# EAGLE library part AP0202AT2L00XPGA0 (library AP0202AT2L00XPGA0)
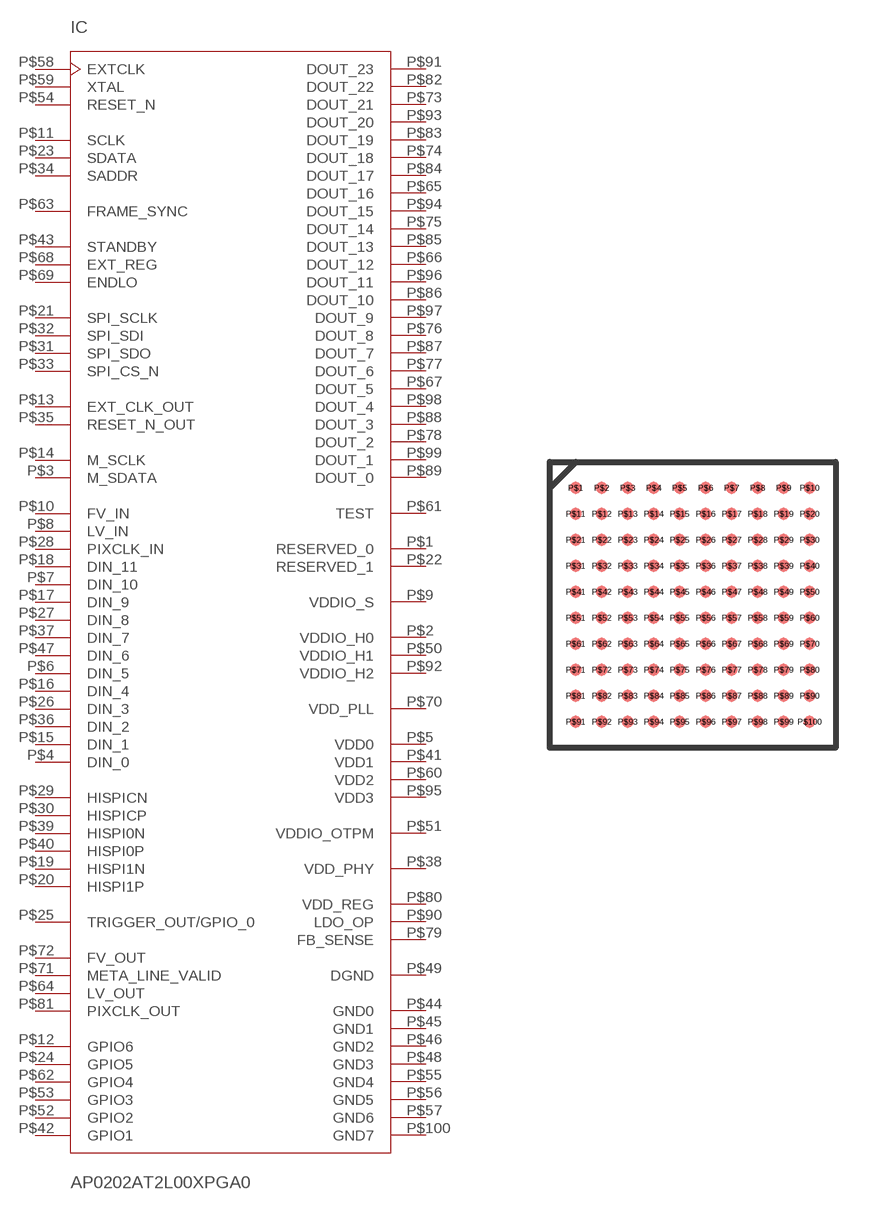
[diagram p0: symbol with the pads of AP0202AT2L00XPGA0; footprint AP0202AT2L00XPGA0]

Designator prefix IC

## AP0202AT2L00XPGA0  [AP0202AT2L00XPGA0]
P$1  RESERVED_0  in
P$2  VDDIO_H0  sup
P$3  M_SDATA
P$4  DIN_0  in
P$5  VDD0  sup
P$6  DIN_5  in
P$7  DIN_10  in
P$8  LV_IN  in
P$9  VDDIO_S  sup
P$10  FV_IN  in
P$11  SCLK  in
P$12  GPIO6
P$13  EXT_CLK_OUT  out
P$14  M_SCLK  out
P$15  DIN_1  in
P$16  DIN_4  in
P$17  DIN_9  in
P$18  DIN_11  in
P$19  HISPI1N  in
P$20  HISPI1P  in
P$21  SPI_SCLK  out
P$22  RESERVED_1  in
P$23  SDATA
P$24  GPIO5
P$25  TRIGGER_OUT/GPIO_0  out
P$26  DIN_3  in
P$27  DIN_8  in
P$28  PIXCLK_IN  in
P$29  HISPICN  in
P$30  HISPICP  in
P$31  SPI_SDO  out
P$32  SPI_SDI  in
P$33  SPI_CS_N  out
P$34  SADDR  in
P$35  RESET_N_OUT  out
P$36  DIN_2  in
P$37  DIN_7  in
P$38  VDD_PHY  sup
P$39  HISPI0N  in
P$40  HISPI0P  in
P$41  VDD1  sup
P$42  GPIO1
P$43  STANDBY  in
P$44  GND0  sup
P$45  GND1  sup
P$46  GND2  sup
P$47  DIN_6  in
P$48  GND3  sup
P$49  DGND  sup
P$50  VDDIO_H1  sup
P$51  VDDIO_OTPM  sup
P$52  GPIO2
P$53  GPIO3
P$54  RESET_N  in
P$55  GND4  sup
P$56  GND5  sup
P$57  GND6  sup
P$58  EXTCLK  in
P$59  XTAL  out
P$60  VDD2  sup
P$61  TEST  in
P$62  GPIO4
P$63  FRAME_SYNC  in
P$64  LV_OUT  out
P$65  DOUT_16  out
P$66  DOUT_12  out
P$67  DOUT_5  out
P$68  EXT_REG  in
P$69  ENDLO  in
P$70  VDD_PLL  sup
P$71  META_LINE_VALID  out
P$72  FV_OUT  out
P$73  DOUT_21  out
P$74  DOUT_18  out
P$75  DOUT_14  out
P$76  DOUT_8  out
P$77  DOUT_6  out
P$78  DOUT_2  out
P$79  FB_SENSE  in
P$80  VDD_REG  sup
P$81  PIXCLK_OUT  out
P$82  DOUT_22  out
P$83  DOUT_19  out
P$84  DOUT_17  out
P$85  DOUT_13  out
P$86  DOUT_10  out
P$87  DOUT_7  out
P$88  DOUT_3  out
P$89  DOUT_0  out
P$90  LDO_OP  out
P$91  DOUT_23  out
P$92  VDDIO_H2  sup
P$93  DOUT_20  out
P$94  DOUT_15  out
P$95  VDD3  sup
P$96  DOUT_11  out
P$97  DOUT_9  out
P$98  DOUT_4  out
P$99  DOUT_1  out
P$100  GND7  sup

## Footprint AP0202AT2L00XPGA0 (pad centres in mm)
smd 0.3 x 0.3: P$1 -2.925,2.925; P$2 -2.275,2.925; P$3 -1.625,2.925; P$4 -0.975,2.925; P$5 -0.325,2.925; P$6 0.325,2.925; P$7 0.975,2.925; P$8 1.625,2.925; P$9 2.275,2.925; P$10 2.925,2.925; P$11 -2.925,2.275; P$12 -2.275,2.275; P$13 -1.625,2.275; P$14 -0.975,2.275; P$15 -0.325,2.275; P$16 0.325,2.275; P$17 0.975,2.275; P$18 1.625,2.275; P$19 2.275,2.275; P$20 2.925,2.275; P$21 -2.925,1.625; P$22 -2.275,1.625; P$23 -1.625,1.625; P$24 -0.975,1.625; P$25 -0.325,1.625; P$26 0.325,1.625; P$27 0.975,1.625; P$28 1.625,1.625; P$29 2.275,1.625; P$30 2.925,1.625; P$31 -2.925,0.975; P$32 -2.275,0.975; P$33 -1.625,0.975; P$34 -0.975,0.975; P$35 -0.325,0.975; P$36 0.325,0.975; P$37 0.975,0.975; P$38 1.625,0.975; P$39 2.275,0.975; P$40 2.925,0.975; P$41 -2.925,0.325; P$42 -2.275,0.325; P$43 -1.625,0.325; P$44 -0.975,0.325; P$45 -0.325,0.325; P$46 0.325,0.325; P$47 0.975,0.325; P$48 1.625,0.325; P$49 2.275,0.325; P$50 2.925,0.325; P$51 -2.925,-0.325; P$52 -2.275,-0.325; P$53 -1.625,-0.325; P$54 -0.975,-0.325; P$55 -0.325,-0.325; P$56 0.325,-0.325; P$57 0.975,-0.325; P$58 1.625,-0.325; P$59 2.275,-0.325; P$60 2.925,-0.325; P$61 -2.925,-0.975; P$62 -2.275,-0.975; P$63 -1.625,-0.975; P$64 -0.975,-0.975; P$65 -0.325,-0.975; P$66 0.325,-0.975; P$67 0.975,-0.975; P$68 1.625,-0.975; P$69 2.275,-0.975; P$70 2.925,-0.975; P$71 -2.925,-1.625; P$72 -2.275,-1.625; P$73 -1.625,-1.625; P$74 -0.975,-1.625; P$75 -0.325,-1.625; P$76 0.325,-1.625; P$77 0.975,-1.625; P$78 1.625,-1.625; P$79 2.275,-1.625; P$80 2.925,-1.625; P$81 -2.925,-2.275; P$82 -2.275,-2.275; P$83 -1.625,-2.275; P$84 -0.975,-2.275; P$85 -0.325,-2.275; P$86 0.325,-2.275; P$87 0.975,-2.275; P$88 1.625,-2.275; P$89 2.275,-2.275; P$90 2.925,-2.275; P$91 -2.925,-2.925; P$92 -2.275,-2.925; P$93 -1.625,-2.925; P$94 -0.975,-2.925; P$95 -0.325,-2.925; P$96 0.325,-2.925; P$97 0.975,-2.925; P$98 1.625,-2.925; P$99 2.275,-2.925; P$100 2.925,-2.925